# EAGLE library part MC68901FN (library F030NG)
MFP / MC68901FN
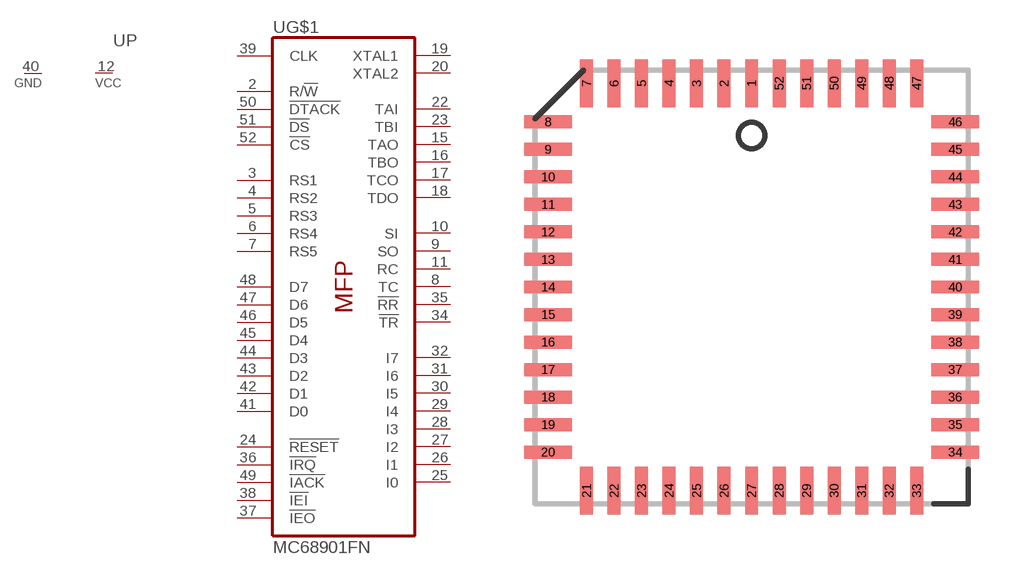
[diagram p6: symbol with the pads of PLCC52; footprint PLCC52]

Designator prefix U; gates G$1=68901 P=1VCC_1GND

## MC68901FN-PLCC52  [PLCC52]
2  G$1:R/!W  in
3  G$1:RS1  in
4  G$1:RS2  in
5  G$1:RS3  in
6  G$1:RS4  in
7  G$1:RS5  in
8  G$1:TC  in
9  G$1:SO  out
10  G$1:SI  in
11  G$1:RC  in
12  P:VCC  pwr
15  G$1:TAO  out
16  G$1:TBO  out
17  G$1:TCO  out
18  G$1:TDO  out
19  G$1:XTAL1  in
20  G$1:XTAL2  in
22  G$1:TAI  in
23  G$1:TBI  in
24  G$1:!RESET  in
25  G$1:I0
26  G$1:I1
27  G$1:I2
28  G$1:I3
29  G$1:I4
30  G$1:I5
31  G$1:I6
32  G$1:I7
34  G$1:!TR  out
35  G$1:!RR  out
36  G$1:!IRQ  out
37  G$1:!IEO  out
38  G$1:!IEI  in
39  G$1:CLK  in
40  P:GND  pwr
41  G$1:D0
42  G$1:D1
43  G$1:D2
44  G$1:D3
45  G$1:D4
46  G$1:D5
47  G$1:D6
48  G$1:D7
49  G$1:!IACK  in
50  G$1:!DTACK  out
51  G$1:!DS  in
52  G$1:!CS  in

## Footprint PLCC52 (pad centres in mm)
smd 0.6 x 2.2: 1 0,9.4; 2 -1.27,9.4; 3 -2.54,9.4; 4 -3.81,9.4; 5 -5.08,9.4; 6 -6.35,9.4; 7 -7.62,9.4; 21 -7.62,-9.4; 22 -6.35,-9.4; 23 -5.08,-9.4; 24 -3.81,-9.4; 25 -2.54,-9.4; 26 -1.27,-9.4; 27 0,-9.4; 28 1.27,-9.4; 29 2.54,-9.4; 30 3.81,-9.4; 31 5.08,-9.4; 32 6.35,-9.4; 33 7.62,-9.4; 47 7.62,9.4; 48 6.35,9.4; 49 5.08,9.4; 50 3.81,9.4; 51 2.54,9.4; 52 1.27,9.4
smd 2.2 x 0.6: 8 -9.4,7.62; 9 -9.4,6.35; 10 -9.4,5.08; 11 -9.4,3.81; 12 -9.4,2.54; 13 -9.4,1.27; 14 -9.4,0; 15 -9.4,-1.27; 16 -9.4,-2.54; 17 -9.4,-3.81; 18 -9.4,-5.08; 19 -9.4,-6.35; 20 -9.4,-7.62; 34 9.4,-7.62; 35 9.4,-6.35; 36 9.4,-5.08; 37 9.4,-3.81; 38 9.4,-2.54; 39 9.4,-1.27; 40 9.4,0; 41 9.4,1.27; 42 9.4,2.54; 43 9.4,3.81; 44 9.4,5.08; 45 9.4,6.35; 46 9.4,7.62